# Altium schematic symbol library GVA-63&plus_.SchLib: 1 symbol
Pins are listed as number, name and electrical type; pins without a type are passive.

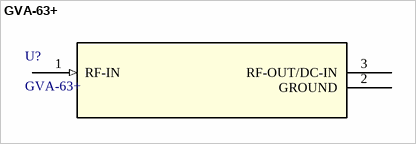
[diagram p0: symbol GVA-63+]

## GVA-63+
designator U?
No Description Available; Manufacturer_Name: Mini Circuits; Type: RF; Copyright: Copyright (C) 2026 Ultra Librarian. All rights reserved.; Manufacturer_Part_Number: GVA-63+; RefDes: RefDes
footprint DF782_MNC
pins: 1 RF-IN (in), 2 GROUND (power), 3 RF-OUT/DC-IN